# Altium footprint library Chip_Inductor_M.PcbLib: 18 footprints (part 1 of 2)
Each footprint in its own frame and in the unit in brackets; x right, y up, seen from the top. Pads: shape width x height; smd on the part's side, far side on the other; paste and mask are expansions set on the pad; w line width, h text height; cw(c..) or ccw(c..) is an arc to the next point about the centre after c.
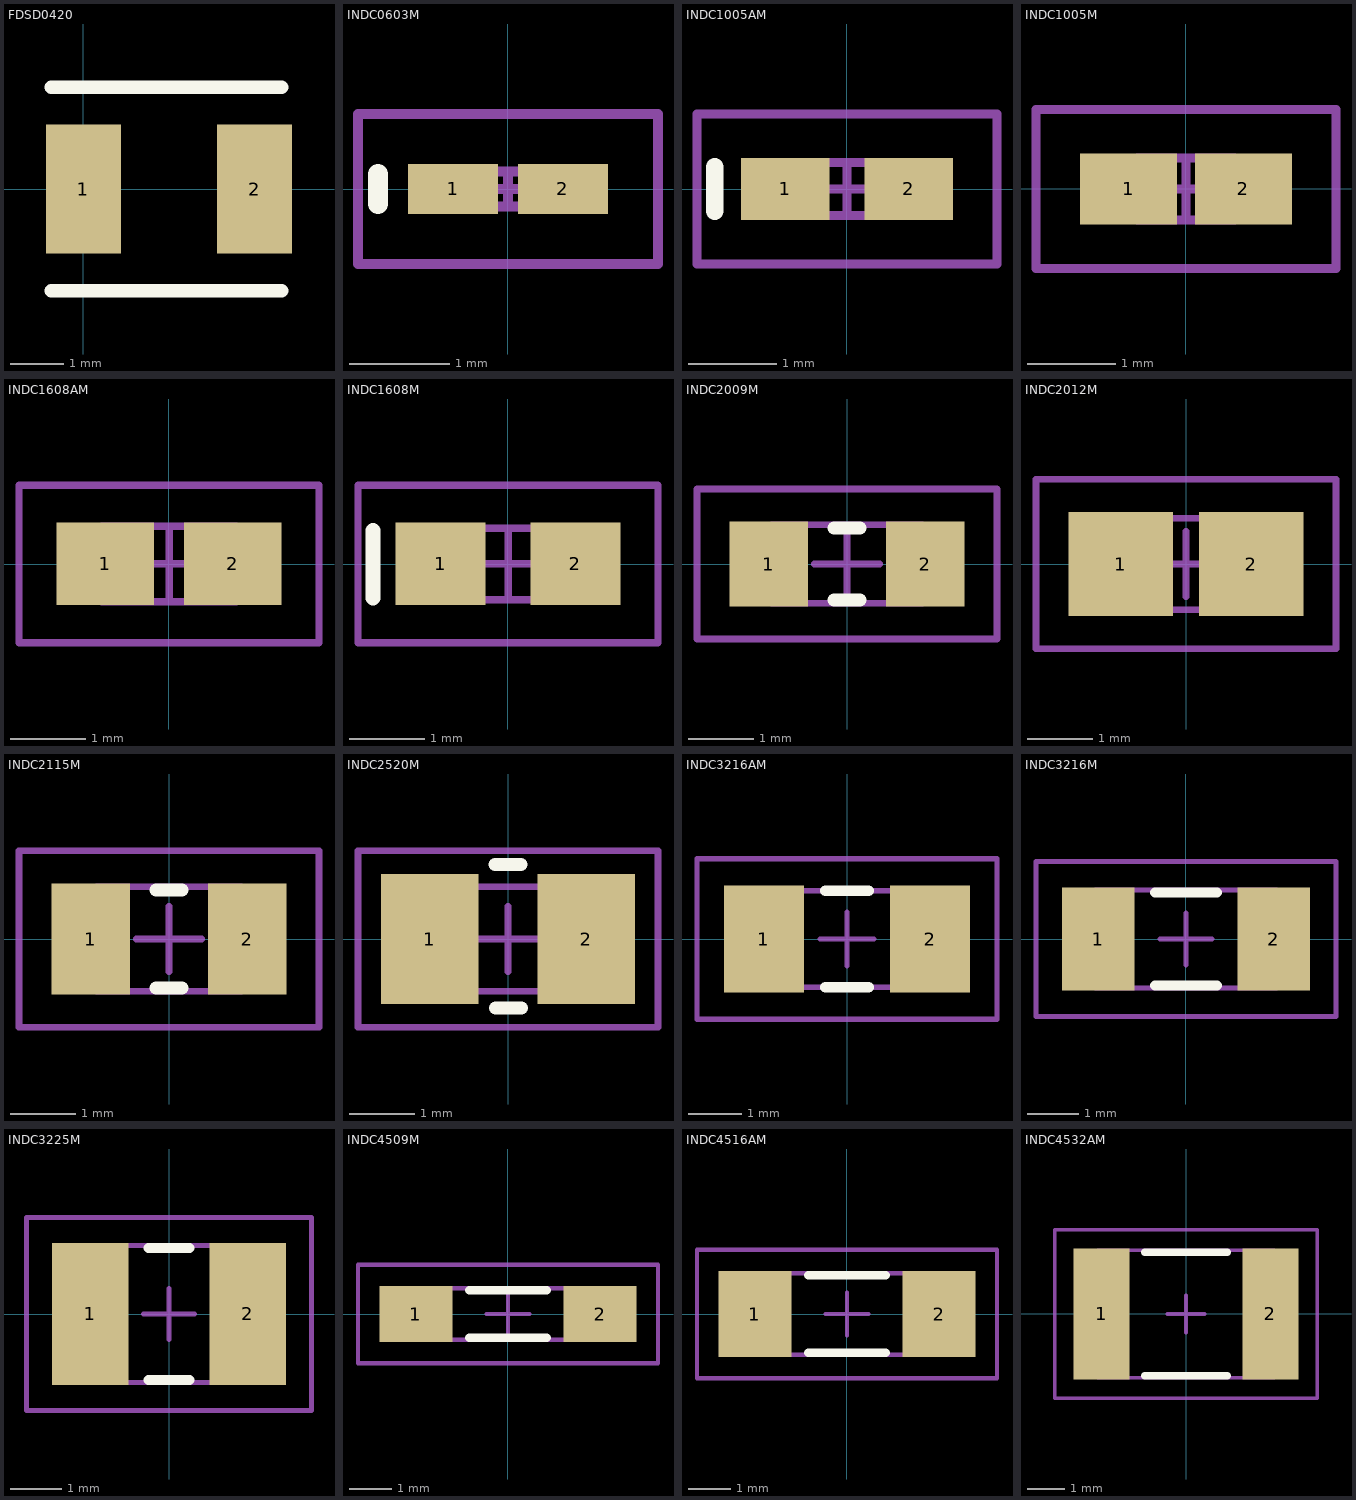
[diagram p0: the footprints below, top view; thin cyan lines are the x and y axes]

## FDSD0420 [mm]
pads (2):
  rect 1.4x2.4 smd: 1(0,0) 2(3.2,0)
Top Overlay:
  lines w0.254: -0.6,-1.9 3.7,-1.9 ; -0.6,1.9 3.7,1.9
3D body: height 2, standoff 0, extent -0.6,-1.7 3.7,1.7

## INDC0603M [mm] "Chip Inductor, Body 0.6x0.3mm, IPC Low Density"
height 0.35
pads (2):
  rect 0.9x0.5 smd: 1(-0.55,0) 2(0.55,0)
Top Overlay:
  lines w0.2: -1.3,-0.15 -1.3,0.15
Mechanical 13:
  lines w0.1: -0.325,-0.175 0.325,-0.175 0.325,0.175 -0.325,0.175 -0.325,-0.175
Mechanical 15:
  lines w0.1: -0.175,0 0.175,0 ; 0,-0.175 0,0.175 ; -1.5,-0.75 1.5,-0.75 1.5,0.75 -1.5,0.75 -1.5,-0.75
3D body: height 0.35, standoff 0, extent -0.325,-0.175 0.325,0.175

## INDC1005AM [mm] "Chip Inductor, Body 1.0x0.5mm, IPC Low Density"
height 0.55
pads (2):
  rect 1x0.7 smd: 1(-0.7,0) 2(0.7,0)
Top Overlay:
  lines w0.2: -1.5,-0.25 -1.5,0.25
Mechanical 13:
  lines w0.1: -0.55,-0.3 -0.55,0.3 0.55,0.3 0.55,-0.3 -0.55,-0.3
Mechanical 15:
  lines w0.1: -0.3,0 0.3,0 ; 0,-0.3 0,0.3 ; -1.7,-0.85 -1.7,0.85 1.7,0.85 1.7,-0.85 -1.7,-0.85
3D body: height 0.55, standoff 0, extent -0.55,-0.3 0.55,0.3

## INDC1005M [mm] "Chip Inductor, Body 1.0x0.5mm, IPC Low Density"
height 0.6
pads (2):
  rect 1.1x0.8 smd: 1(-0.65,0) 2(0.65,0)
Mechanical 13:
  lines w0.1: -0.55,-0.35 -0.55,0.35 0.55,0.35 0.55,-0.35 -0.55,-0.35
Mechanical 15:
  lines w0.1: -0.35,0 0.35,0 ; 0,-0.35 0,0.35 ; -1.7,-0.9 -1.7,0.9 1.7,0.9 1.7,-0.9 -1.7,-0.9
3D body: height 0.6, standoff 0, extent -0.55,-0.35 0.55,0.35

## INDC1608AM [mm] "Chip Inductor, Body 1.6x0.8mm, IPC Low Density"
height 1
pads (2):
  rect 1.3x1.1 smd: 1(-0.85,0) 2(0.85,0)
Mechanical 13:
  lines w0.1: -0.9,-0.5 -0.9,0.5 0.9,0.5 0.9,-0.5 -0.9,-0.5
Mechanical 15:
  lines w0.1: -0.5,0 0.5,0 ; 0,-0.5 0,0.5 ; -2,-1.05 -2,1.05 2,1.05 2,-1.05 -2,-1.05
3D body: height 1, standoff 0, extent -0.9,-0.5 0.9,0.5

## INDC1608M [mm] "Chip Inductor, Body 1.6x0.8mm, IPC Low Density"
height 0.71
pads (2):
  rect 1.2x1.1 smd: 1(-0.9,0) 2(0.9,0)
Top Overlay:
  lines w0.2: -1.8,-0.45 -1.8,0.45
Mechanical 13:
  lines w0.1: -0.875,-0.475 0.875,-0.475 0.875,0.475 -0.875,0.475 -0.875,-0.475
Mechanical 15:
  lines w0.1: -0.475,0 0.475,0 ; 0,-0.475 0,0.475 ; -2,-1.05 2,-1.05 2,1.05 -2,1.05 -2,-1.05
3D body: height 0.71, standoff 0, extent -0.875,-0.475 0.875,0.475

## INDC2009M [mm] "Chip Inductor, Body 2.0x0.9mm, IPC Low Density"
height 1.2
pads (2):
  rect 1.2x1.3 smd: 1(-1.2,0) 2(1.2,0)
Top Overlay:
  lines w0.2: -0.2,-0.55 0.2,-0.55 ; -0.2,0.55 0.2,0.55
Mechanical 13:
  lines w0.1: -1.15,-0.6 1.15,-0.6 1.15,0.6 -1.15,0.6 -1.15,-0.6
Mechanical 15:
  lines w0.1: -0.5,0 0.5,0 ; 0,-0.5 0,0.5 ; -2.3,-1.15 2.3,-1.15 2.3,1.15 -2.3,1.15 -2.3,-1.15
3D body: height 1.2, standoff 0, extent -1.15,-0.6 1.15,0.6

## INDC2012M [mm] "Chip Inductor, Body 2.0x1.2mm, IPC Low Density"
height 1.1
pads (2):
  rect 1.6x1.6 smd: 1(-1,0) 2(1,0)
Mechanical 13:
  lines w0.1: -1.1,-0.7 -1.1,0.7 1.1,0.7 1.1,-0.7 -1.1,-0.7
Mechanical 15:
  lines w0.1: -0.5,0 0.5,0 ; 0,-0.5 0,0.5 ; -2.3,-1.3 -2.3,1.3 2.3,1.3 2.3,-1.3 -2.3,-1.3
3D body: height 1.1, standoff 0, extent -1.1,-0.7 1.1,0.7

## INDC2115M [mm] "Chip Inductor, Body 2.1x1.5mm, IPC Low Density"
height 1.04
pads (2):
  rect 1.2x1.7 smd: 1(-1.2,0) 2(1.2,0)
Top Overlay:
  lines w0.2: -0.2,-0.75 0.2,-0.75 ; -0.2,0.75 0.2,0.75
Mechanical 13:
  lines w0.1: -1.105,-0.8 1.105,-0.8 1.105,0.8 -1.105,0.8 -1.105,-0.8
Mechanical 15:
  lines w0.1: -0.5,0 0.5,0 ; 0,-0.5 0,0.5 ; -2.3,-1.35 2.3,-1.35 2.3,1.35 -2.3,1.35 -2.3,-1.35
3D body: height 1.04, standoff 0, extent -1.105,-0.8 1.105,0.8

## INDC2520M [mm] "Chip Inductor, Body 2.5x2.0mm, IPC Low Density"
height 1.04
pads (2):
  rect 1.5x2 smd: 1(-1.2,0) 2(1.2,0)
Top Overlay:
  lines w0.2: -0.2,1.14 0.2,1.14 ; -0.19,-1.06 0.21,-1.06
Mechanical 13:
  lines w0.1: -1.105,-0.8 -1.105,0.8 1.105,0.8 1.105,-0.8 -1.105,-0.8
Mechanical 15:
  lines w0.1: -0.5,0 0.5,0 ; 0,-0.5 0,0.5 ; -2.3,-1.35 -2.3,1.35 2.3,1.35 2.3,-1.35 -2.3,-1.35
3D body: height 1.04, standoff 0, extent -1.59,-1.07 1.56,1.04

## INDC3216AM [mm] "Chip Inductor, Body 3.2x1.6mm, IPC Low Density"
height 1.3
pads (2):
  rect 1.5x2 smd: 1(-1.55,0) 2(1.55,0)
Top Overlay:
  lines w0.2: -0.4,-0.9 0.4,-0.9 ; -0.4,0.9 0.4,0.9
Mechanical 13:
  lines w0.1: -1.7,-0.9 1.7,-0.9 1.7,0.9 -1.7,0.9 -1.7,-0.9
Mechanical 15:
  lines w0.1: -0.5,0 0.5,0 ; 0,-0.5 0,0.5 ; -2.8,-1.5 2.8,-1.5 2.8,1.5 -2.8,1.5 -2.8,-1.5
3D body: height 1.3, standoff 0, extent -1.7,-0.9 1.7,0.9

## INDC3216M [mm] "Chip Inductor, Body 3.2x1.6mm, IPC Low Density"
height 1.9
pads (2):
  rect 1.4x2 smd: 1(-1.7,0) 2(1.7,0)
Top Overlay:
  lines w0.2: -0.6,-0.9 0.6,-0.9 ; -0.6,0.9 0.6,0.9
Mechanical 13:
  lines w0.1: -1.75,-0.95 -1.75,0.95 1.75,0.95 1.75,-0.95 -1.75,-0.95
Mechanical 15:
  lines w0.1: -0.5,0 0.5,0 ; 0,-0.5 0,0.5 ; -2.9,-1.5 -2.9,1.5 2.9,1.5 2.9,-1.5 -2.9,-1.5
3D body: height 1.9, standoff 0, extent -1.75,-0.95 1.75,0.95

## INDC3225M [mm] "Chip Inductor, Body 3.2x2.5mm, IPC Low Density"
height 1.5
pads (2):
  rect 1.5x2.8 smd: 1(-1.55,0) 2(1.55,0)
Top Overlay:
  lines w0.2: -0.4,-1.3 0.4,-1.3 ; -0.4,1.3 0.4,1.3
Mechanical 13:
  lines w0.1: -1.7,-1.35 1.7,-1.35 1.7,1.35 -1.7,1.35 -1.7,-1.35
Mechanical 15:
  lines w0.1: -0.5,0 0.5,0 ; 0,-0.5 0,0.5 ; -2.8,-1.9 2.8,-1.9 2.8,1.9 -2.8,1.9 -2.8,-1.9
3D body: height 1.5, standoff 0, extent -1.7,-1.35 1.7,1.35

## INDC4509M [mm] "Chip Inductor, Body 4.5x0.9mm, IPC Low Density"
height 1.9
pads (2):
  rect 1.7x1.3 smd: 1(-2.15,0) 2(2.15,0)
Top Overlay:
  lines w0.2: -0.9,-0.55 0.9,-0.55 ; -0.9,0.55 0.9,0.55
Mechanical 13:
  lines w0.1: -2.4,-0.6 2.4,-0.6 2.4,0.6 -2.4,0.6 -2.4,-0.6
Mechanical 15:
  lines w0.1: -0.5,0 0.5,0 ; 0,-0.5 0,0.5 ; -3.5,-1.15 3.5,-1.15 3.5,1.15 -3.5,1.15 -3.5,-1.15
3D body: height 1.9, standoff 0, extent -2.4,-0.6 2.4,0.6

## INDC4516AM [mm] "Chip Inductor, Body 4.5x1.6mm, IPC Low Density"
height 1.8
pads (2):
  rect 1.7x2 smd: 1(-2.15,0) 2(2.15,0)
Top Overlay:
  lines w0.2: -0.9,-0.9 0.9,-0.9 ; -0.9,0.9 0.9,0.9
Mechanical 13:
  lines w0.1: -2.4,-0.95 2.4,-0.95 2.4,0.95 -2.4,0.95 -2.4,-0.95
Mechanical 15:
  lines w0.1: -0.5,0 0.5,0 ; 0,-0.5 0,0.5 ; -3.5,-1.5 3.5,-1.5 3.5,1.5 -3.5,1.5 -3.5,-1.5
3D body: height 1.8, standoff 0, extent -2.4,-0.95 2.4,0.95

## INDC4532AM [mm] "Chip Inductor, Body 4.5x3.2mm, IPC Low Density"
height 1.7
pads (2):
  rect 1.5x3.5 smd: 1(-2.25,0) 2(2.25,0)
Top Overlay:
  lines w0.2: -1.1,-1.65 1.1,-1.65 ; -1.1,1.65 1.1,1.65
Mechanical 13:
  lines w0.1: -2.35,-1.7 -2.35,1.7 2.35,1.7 2.35,-1.7 -2.35,-1.7
Mechanical 15:
  lines w0.1: -0.5,0 0.5,0 ; 0,-0.5 0,0.5 ; -3.5,-2.25 -3.5,2.25 3.5,2.25 3.5,-2.25 -3.5,-2.25
3D body: height 1.7, standoff 0, extent -2.35,-1.7 2.35,1.7